# Altium schematic symbol library BTS134D.SchLib: 1 symbol
Pins are listed as number, name and electrical type; pins without a type are passive.

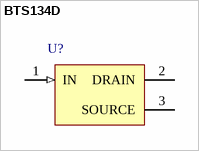
[diagram p0: symbol BTS134D]

## BTS134D
designator U?
Smart Low-Side Power Switch HITFET, 42 V VDS, 3.5 A ID, -40 to 150 degC, PG-TO252-3-11, Reel, Green; Manufacturer: Infineon; PartNumber: BTS134D; Channels: 1; Green: TRUE; ID: 3.5 A; ID(lim) (min): 18 A; Ptot (max): 43 W; RDS (on)(max): 50 mOhm; ton (max): 100 us; VDS (max): 42 V; DatasheetVersion: Rev. 1.3; PackageVersion: Dec-06; PackageReference: PG-TO252-3-11; PackageDescription: 3-Pin Plastic (Green) Transistor Single Outline Package, 6.5 x 6.12 mm Body, 2.28 mm Pitch; Supplier 1: Digi-Key; Supplier Part Number 1: BTS134DTR-ND; Supplier 2: Digi-Key; Supplier Part Number 2: BTS134DCT-ND; Supplier 3: Digi-Key; Supplier Part Number 3: BTS134DDKR-ND; Supplier 4: Farnell; Supplier Part Number 4: 2215510; Supplier 5: Newark; Supplier Part Number 5: 47W3381; Supplier 6: Mouser; Supplier Part Number 6: 726-BTS134D; Group: HITFET; Halogen-free: TRUE; ID(nom): 3.5 A; Packing: Reel; toff (max): 100 us; Mounting Technology: Surface Mount; ComponentLink1Description: Manufacturer URL; ComponentLink1URL: http://www.infineon.com/; ComponentLink2Description: Datasheet; ComponentLink2URL: http://www.infineon.com/dgdl/BTS134_DS_13.pdf?folderId=db3a3043163797a6011667aa084c0e01&fileId=db3a3043163797a6011667bdc0940e62&location=en.Products.Automotive_ICs.Smart_High-_and_Low-Side_Switches.HITFET___TEMPFET__-_Smart_Low-Side_Switches.DATASHEET.BTS134_DS_13.pdf; ComponentLink3Description: Package Specification; ComponentLink3URL: http://www.infineon.com/dgdl/BTS142_DS_13.pdf?folderId=db3a3043163797a6011667aa084c0e01&fileId=db3a3043163797a6011667ac98be0e02&location=en.Products.Automotive_ICs.Smart_High-_and_Low-Side_Switches.HITFET___TEMPFET__-_Smart_Low-Side_Switches.DATASHEET.BTS142_DS_13.pdf
footprint INF-PG-TO252-3-11_N (DPAK, 3-Leads, Body 6.5x6.12mm, Pitch 2.28mm, IPC Medium Density)
footprint INF-PG-TO252-3-11_L (DPAK, 3-Leads, Body 6.5x6.12mm, Pitch 2.28mm, IPC High Density)
footprint INF-PG-TO252-3-11_M (DPAK, 3-Leads, Body 6.5x6.12mm, Pitch 2.28mm, IPC Low Density)
pins: 1 IN (in), 2 DRAIN (power), 3 SOURCE (power)